# Altium footprint library ICS43434.PcbLib: 1 footprints
Each footprint in its own frame and in the unit in brackets; x right, y up, seen from the top. Pads: shape width x height; smd on the part's side, far side on the other; paste and mask are expansions set on the pad; w line width, h text height; cw(c..) or ccw(c..) is an arc to the next point about the centre after c.
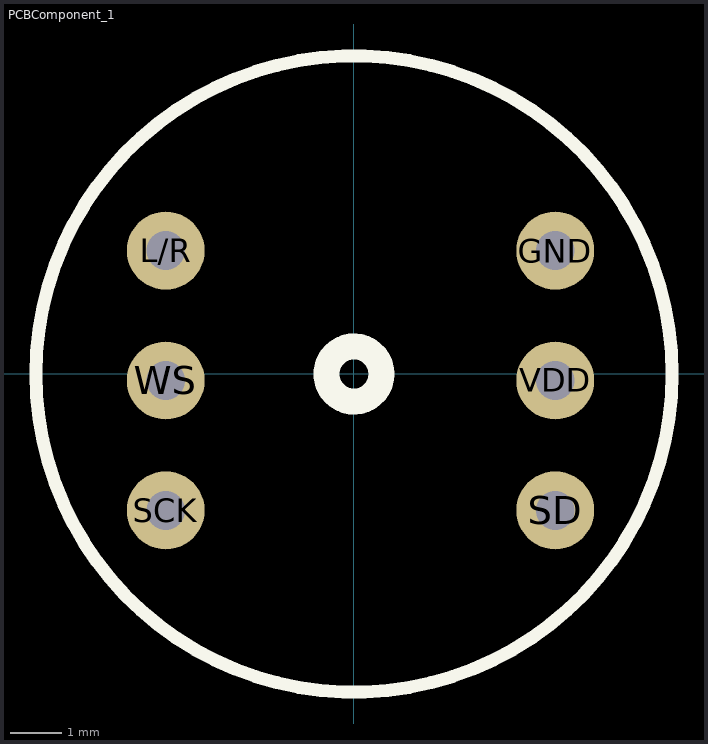
[diagram p0: the footprint, top view; thin cyan lines are the x and y axes]

## PCBComponent_1 [mil]
pads (6):
  round 60 hole 30 paste-99999: GND(155,95) L/R(-145,95) SCK(-145,-105) SD(155,-105) VDD(155,-5) WS(-145,-5)
Top Overlay:
  circle w20: c0,0 r21.21
  circle w10: c0,0 r245.05
3D body "INMP441 I2S Microphone Module v15.step": height 241.34, standoff -201.57, extent -265,-285.31 276.96,275.31